# Altium schematic symbol library Schlib1.SchLib: 6 symbols
Pins are listed as number, name and electrical type; pins without a type are passive.

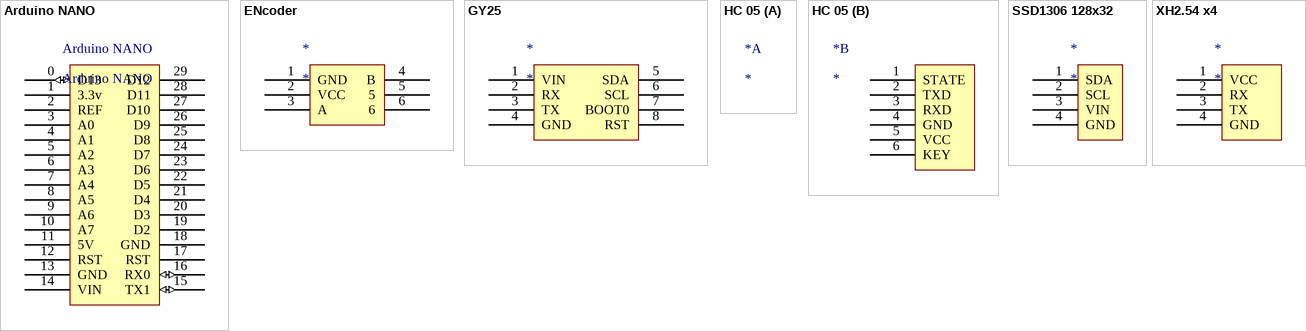
[diagram p0: symbols Arduino NANO to XH2.54 x4]

## Arduino NANO
designator Arduino NANO
footprint Arduino NANO
pins: 0 D13 (io), 1 3.3v (power), 2 REF, 3 A0, 4 A1, 5 A2, 6 A3, 7 A4, 8 A5, 9 A6, 10 A7, 11 5V, 12 RST, 13 GND (power), 14 VIN, 15 TX1 (io), 16 RX0 (io), 17 RST, 18 GND (power), 19 D2, 20 D3, 21 D4, 22 D5, 23 D6, 24 D7, 25 D8, 26 D9, 27 D10, 28 D11, 29 D12

## ENcoder
designator *
footprint 6pin2
pins: 1 GND, 2 VCC, 3 A, 4 B, 5, 6

## GY25
designator *
footprint PCBComponent_1
pins: 1 VIN, 2 RX, 3 TX, 4 GND, 5 SDA, 6 SCL, 7 BOOT0, 8 RST

## HC 05
designator *
footprint HC 05
part B pins: 1 STATE, 2 TXD, 3 RXD, 4 GND, 5 VCC, 6 KEY

## SSD1306 128x32
designator *
footprint SSD1306 iic
pins: 1 SDA, 2 SCL, 3 VIN, 4 GND

## XH2.54 x4
designator *
footprint XH2.54
pins: 1 VCC, 2 RX, 3 TX, 4 GND